# EAGLE library part MAX333 (library ic)
MAX333: Quad SPDT switch (Maxim) 44V, 35Ω Ron, 30mA
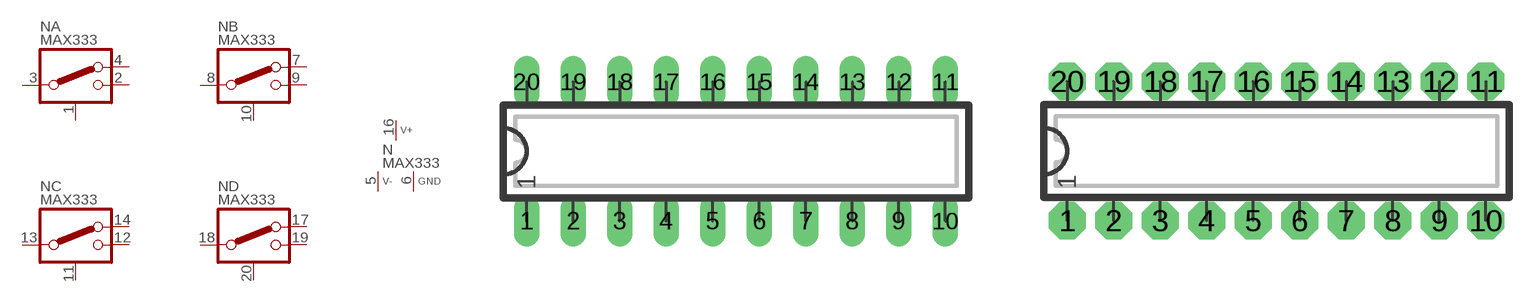
[diagram p80: symbol with the pads of DIP20L; footprints DIP20L, DIP20N]

Designator prefix N; gates A=SD1X2 B=SD1X2 C=SD1X2 D=SD1X2 P=V+-GND

## MAX333  [DIP20L]
1  A:D  in
2  A:S2B
3  A:S1
4  A:S2A
5  P:V-  pwr
6  P:GND  pwr
7  B:S2A
8  B:S1
9  B:S2B
10  B:D  in
11  C:D  in
12  C:S2B
13  C:S1
14  C:S2A
16  P:V+  pwr
17  D:S2A
18  D:S1
19  D:S2B
20  D:D  in

## MAX333L  [DIP20L]
Pads as for DIP20L

## MAX333N  [DIP20N]
Pads as for DIP20L

## MAX333R  [DIP20R]
Pads as for DIP20L

## Footprint DIP20L (pad centres in mm)
DIP-20, long pads Standard IC package, 20 pins
drill 0.813 pad 1.397 long: 1 -11.43,-3.81; 2 -8.89,-3.81; 3 -6.35,-3.81; 4 -3.81,-3.81; 5 -1.27,-3.81; 6 1.27,-3.81; 7 3.81,-3.81; 8 6.35,-3.81; 9 8.89,-3.81; 10 11.43,-3.81; 11 11.43,3.81; 12 8.89,3.81; 13 6.35,3.81; 14 3.81,3.81; 15 1.27,3.81; 16 -1.27,3.81; 17 -3.81,3.81; 18 -6.35,3.81; 19 -8.89,3.81; 20 -11.43,3.81

## Footprint DIP20N (pad centres in mm)
DIP-20 Standard IC package, 20 pins
drill 0.813 pad 2.032 octagon: 1 -11.43,-3.81; 2 -8.89,-3.81; 3 -6.35,-3.81; 4 -3.81,-3.81; 5 -1.27,-3.81; 6 1.27,-3.81; 7 3.81,-3.81; 8 6.35,-3.81; 9 8.89,-3.81; 10 11.43,-3.81; 11 11.43,3.81; 12 8.89,3.81; 13 6.35,3.81; 14 3.81,3.81; 15 1.27,3.81; 16 -1.27,3.81; 17 -3.81,3.81; 18 -6.35,3.81; 19 -8.89,3.81; 20 -11.43,3.81

## Footprint DIP20R (pad centres in mm)
DIP-20, reduced pads Standard IC package, 20 pins
drill 0.813 pad 1.397 square: 1 -11.43,-3.81; 2 -8.89,-3.81; 3 -6.35,-3.81; 4 -3.81,-3.81; 5 -1.27,-3.81; 6 1.27,-3.81; 7 3.81,-3.81; 8 6.35,-3.81; 9 8.89,-3.81; 10 11.43,-3.81; 11 11.43,3.81; 12 8.89,3.81; 13 6.35,3.81; 14 3.81,3.81; 15 1.27,3.81; 16 -1.27,3.81; 17 -3.81,3.81; 18 -6.35,3.81; 19 -8.89,3.81; 20 -11.43,3.81